# Altium footprint library 数码管.PCBLIB: 31 footprints (part 1 of 2)
Each footprint in its own frame and in the unit in brackets; x right, y up, seen from the top. Pads: shape width x height; smd on the part's side, far side on the other; paste and mask are expansions set on the pad; w line width, h text height; cw(c..) or ccw(c..) is an arc to the next point about the centre after c.
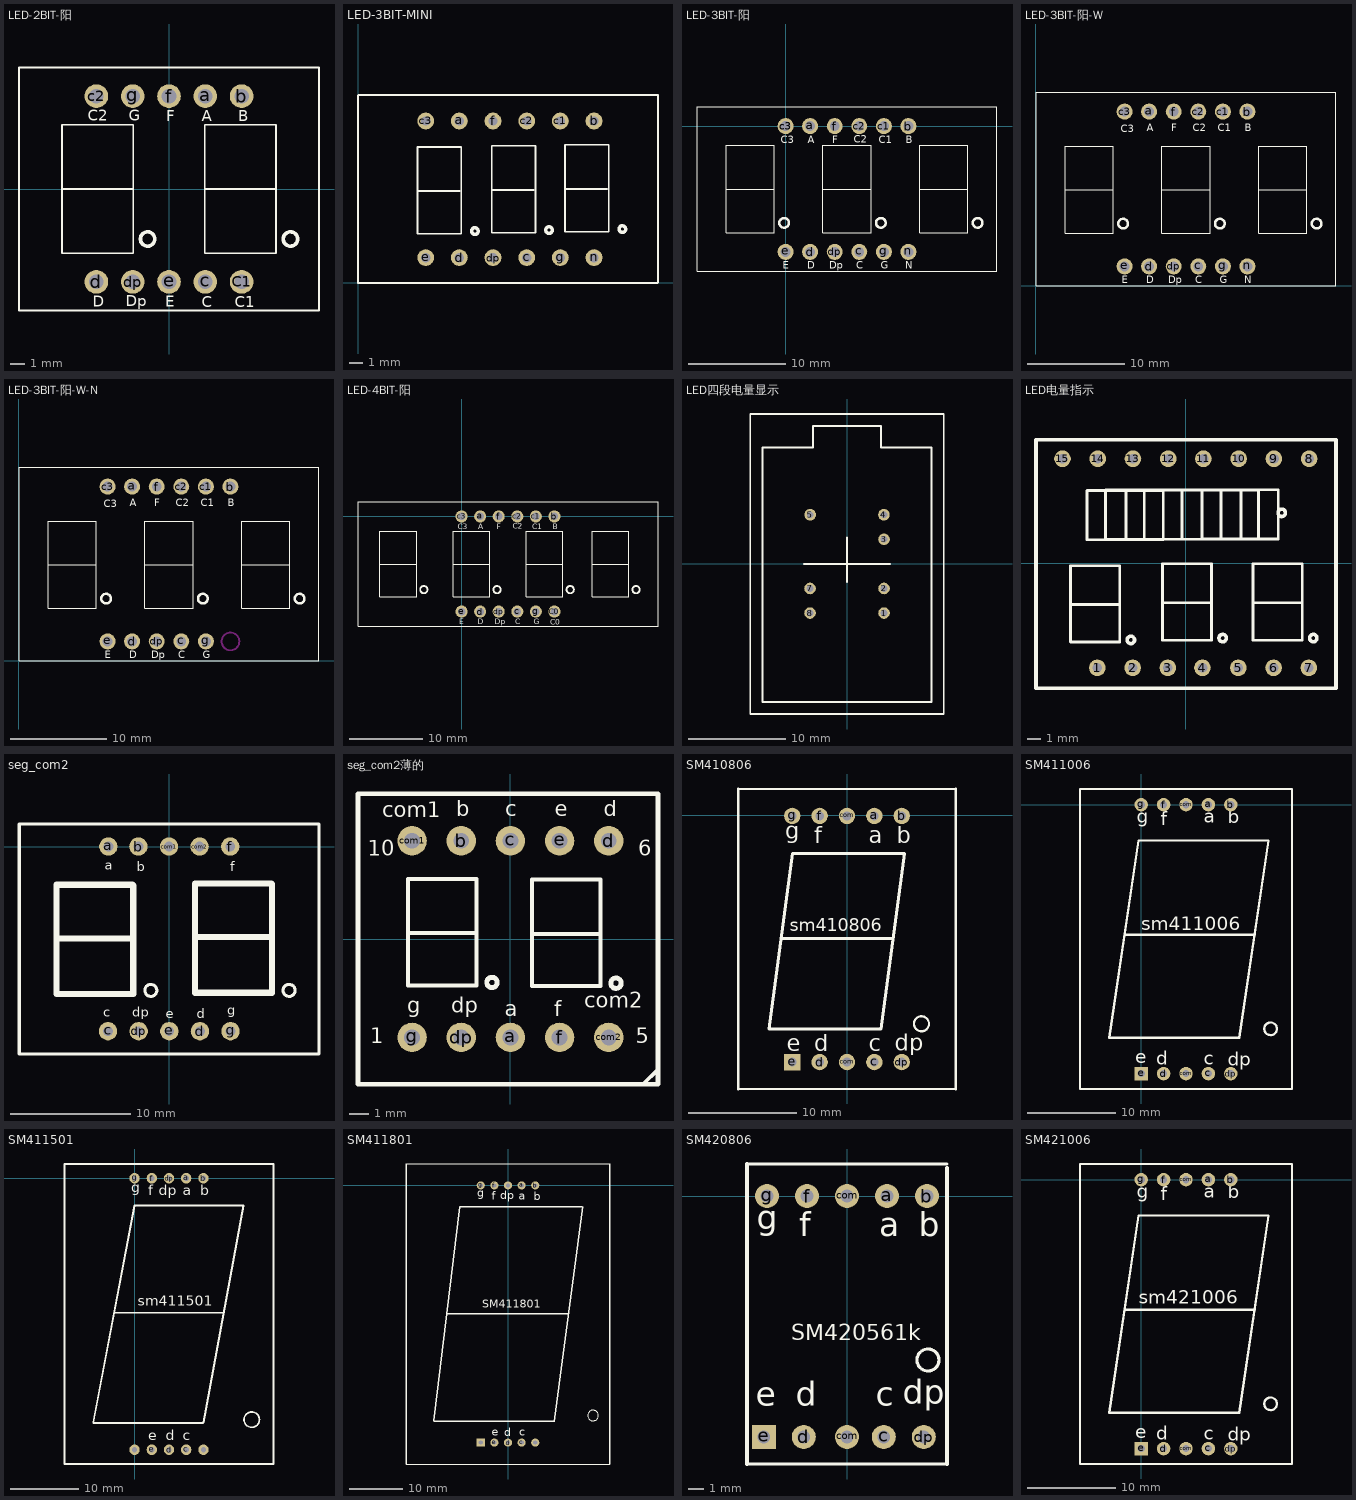
[diagram p0: the footprints below, top view; thin cyan lines are the x and y axes]

## LED-2BIT-阳 [mil]
pads (10):
  round 65 hole 40: a(100,255.91) b(200,255.91) c(100,-255.91) C1(200,-255.91) c2(-200,255.91) d(-200,-255.91) dp(-100,-255.91) e(0,-255.91) f(0,255.91) g(-100,255.91)
TopOverlay:
  circle w10: c-59.06,-137.8 r19.68
  circle w10: c334.65,-137.8 r19.68
  lines w5: -295.28,0 -98.43,0 ; 98.43,0 295.28,0 ; -413.39,-334.65 413.39,-334.65 413.39,334.65 -413.39,334.65 -413.39,-334.65 ; -295.28,-177.17 -295.28,177.17 -98.43,177.17 -98.43,-177.17 -295.28,-177.17 ; 98.43,-177.17 98.43,177.17 295.28,177.17 295.28,-177.17 98.43,-177.17
  text "G" at -111,188 h30
  text "B" at 191,187 h30
  text "E" at -10,-324 h30
  text "D" at -210,-325 h30
  text "Dp" at -119,-323 h30
  text "C" at 90,-326 h30
  text "C2" at -224,188 h30
  text "A" at 90,187 h30
  text "F" at -8,187 h30
  text "C1" at 181,-326 h30

## LED-3BIT-MINI [mil]
pads (12):
  round 50 hole 27.99: a(301,481) b(701,481) c(501,75.23) c1(601,481) c2(501,481) c3(201,481) d(301,75.23) dp(401,75.23) e(201,75.23) f(401,481) g(601,75.23) n(701,75.23)
TopOverlay:
  circle w10: c347.16,154 r9.84
  circle w10: c785.16,160 r9.84
  circle w10: c567.16,157 r9.84
  lines w5: 0,557.48 0,0 889.76,0 ; 1.24,558 891,558 891,0.52 ; 176.87,273.09 302,273.09 ; 176.87,403 176.87,146 307,146 307,404 176.87,404 ; 396.87,276.09 522,276.09 ; 396.87,406 396.87,149 527,149 527,407 396.87,407 ; 614.87,279.09 740,279.09 ; 614.87,409 614.87,152 745,152 745,410 614.87,410

## LED-3BIT-阳 [mil]
pads (13):
  round 65 hole 40: a(100,0) b(500,0) c(300,-511.81) c1(400,0) c2(300,0) c3(0,0) c3(0,0) d(100,-511.81) dp(200,-511.81) e(0,-511.81) f(200,0) g(400,-511.81) n(500,-511.81)
TopOverlay:
  circle w10: c781.5,-393.7 r19.68
  circle w10: c-5.91,-393.7 r19.68
  circle w10: c387.8,-393.7 r19.68
  lines w5: -242.13,-255.91 -45.28,-255.91 ; 151.57,-255.91 348.43,-255.91 ; 545.28,-255.91 742.13,-255.91 ; -242.13,-433.07 -242.13,-78.74 ; -242.13,-433.07 -242.13,-78.74 ; -242.13,-433.07 -45.28,-433.07 -45.28,-78.74 -242.13,-78.74 ; 742.13,-433.07 742.13,-78.74 ; 742.13,-433.07 545.28,-433.07 545.28,-78.74 742.13,-78.74 ; 742.13,-433.07 742.13,-78.74 ; -360.24,-590.55 860.24,-590.55 860.24,78.74 -360.24,78.74 -360.24,-590.55 ; 151.57,-433.07 151.57,-78.74 348.43,-78.74 348.43,-433.07 151.57,-433.07
  text "C2" at 276.84,-66.92 h30
  text "C1" at 379.84,-68.92 h30
  text "B" at 489.84,-68.92 h30
  text "E" at -12.16,-580.92 h30
  text "D" at 87.84,-580.92 h30
  text "Dp" at 177.84,-580.92 h30
  text "C" at 287.84,-580.92 h30
  text "G" at 387.84,-580.92 h30
  text "C3" at -20.16,-68.92 h30
  text "A" at 89.84,-68.92 h30
  text "F" at 189.84,-68.92 h30
  text "N" at 487.84,-580.92 h30

## LED-3BIT-阳-W [mil]
pads (12):
  round 65 hole 40: a(461,708.96) b(861,708.96) c(661,79.04) c1(761,708.96) c2(661,708.96) c3(361,708.96) d(461,79.04) dp(561,79.04) e(361,79.04) f(561,708.96) g(761,79.04) n(861,79.04)
TopOverlay:
  circle w10: c1142.5,253.15 r19.68
  circle w10: c355.09,253.15 r19.68
  circle w10: c748.8,253.15 r19.68
  lines w5: 118.87,390.94 315.72,390.94 ; 512.57,390.94 709.43,390.94 ; 906.28,390.94 1103.13,390.94 ; 118.87,213.78 118.87,568.11 ; 118.87,213.78 118.87,568.11 ; 118.87,213.78 315.72,213.78 315.72,568.11 118.87,568.11 ; 1103.13,213.78 1103.13,568.11 ; 1103.13,213.78 906.28,213.78 906.28,568.11 1103.13,568.11 ; 1103.13,213.78 1103.13,568.11 ; 0.76,0.3 1221.24,0.3 1221.24,787.7 0.76,787.7 0.76,0.3 ; 512.57,213.78 512.57,568.11 709.43,568.11 709.43,213.78 512.57,213.78
  text "C2" at 637.84,629.93 h30
  text "C1" at 740.84,627.93 h30
  text "B" at 850.84,627.93 h30
  text "E" at 348.84,9.93 h30
  text "D" at 448.84,9.93 h30
  text "Dp" at 538.84,9.93 h30
  text "C" at 648.84,9.93 h30
  text "G" at 748.84,9.93 h30
  text "A" at 450.84,627.93 h30
  text "F" at 550.84,627.93 h30
  text "N" at 848.84,9.93 h30
  text "C3" at 346,624 h30

## LED-3BIT-阳-W-N [mil]
pads (11):
  round 65 hole 40: a(461.24,708.66) b(861.24,708.66) c(661.24,78.74) c1(761.24,708.66) c2(661.24,708.66) c3(361.24,708.66) d(461.24,78.74) dp(561.24,78.74) e(361.24,78.74) f(561.24,708.66) g(761.24,78.74)
TopOverlay:
  circle w10: c1142.73,252.85 r19.68
  circle w10: c355.33,252.85 r19.68
  circle w10: c749.03,252.85 r19.68
  lines w5: 119.11,390.65 315.96,390.65 ; 512.81,390.65 709.66,390.65 ; 906.51,390.65 1103.36,390.65 ; 119.11,213.48 119.11,567.81 ; 119.11,213.48 119.11,567.81 ; 119.11,213.48 315.96,213.48 315.96,567.81 119.11,567.81 ; 1103.36,213.48 1103.36,567.81 ; 1103.36,213.48 906.51,213.48 906.51,567.81 1103.36,567.81 ; 1103.36,213.48 1103.36,567.81 ; 1,0 1221.47,0 1221.47,787.4 1,787.4 1,0 ; 512.81,213.48 512.81,567.81 709.66,567.81 709.66,213.48 512.81,213.48
  text "C2" at 638.08,629.63 h30
  text "C1" at 741.08,627.63 h30
  text "B" at 851.08,627.63 h30
  text "E" at 349.08,9.63 h30
  text "D" at 449.08,9.63 h30
  text "Dp" at 539.08,9.63 h30
  text "C" at 649.08,9.63 h30
  text "G" at 749.08,9.63 h30
  text "A" at 451.08,627.63 h30
  text "F" at 551.08,627.63 h30
  text "C3" at 346.24,623.7 h30
KeepOutLayer:
  circle w7.87: c861.24,78.74 r36.09

## LED-4BIT-阳 [mil]
pads (12):
  round 65 hole 40: a(100,0) b(500,0) c(300,-511.81) C0(500,-511.81) c1(400,0) c2(300,0) c3(0,0) d(100,-511.81) dp(200,-511.81) e(0,-511.81) f(200,0) g(400,-511.81)
TopOverlay:
  circle w10: c-202.76,-393.7 r19.68
  circle w10: c190.94,-393.7 r19.68
  circle w10: c584.65,-393.7 r19.68
  circle w10: c938.98,-393.7 r19.68
  lines w5: -438.98,-255.91 -242.13,-255.91 ; -45.28,-255.91 151.57,-255.91 ; 348.43,-255.91 545.28,-255.91 ; 702.76,-255.91 899.61,-255.91 ; -557.09,-590.55 1057.09,-590.55 1057.09,78.74 -557.09,78.74 -557.09,-590.55 ; -438.98,-433.07 -438.98,-78.74 -242.13,-78.74 -242.13,-433.07 -438.98,-433.07 ; -45.28,-433.07 -45.28,-78.74 151.57,-78.74 151.57,-433.07 -45.28,-433.07 ; 348.43,-433.07 348.43,-78.74 545.28,-78.74 545.28,-433.07 348.43,-433.07 ; 702.76,-433.07 702.76,-78.74 899.61,-78.74 899.61,-433.07 702.76,-433.07
  text "C2" at 276.84,-66.92 h30
  text "C1" at 379.84,-68.92 h30
  text "B" at 489.84,-68.92 h30
  text "E" at -12.16,-580.92 h30
  text "D" at 87.84,-580.92 h30
  text "Dp" at 177.84,-580.92 h30
  text "C" at 287.84,-580.92 h30
  text "G" at 387.84,-580.92 h30
  text "C3" at -20.16,-68.92 h30
  text "A" at 89.84,-68.92 h30
  text "F" at 189.84,-68.92 h30
  text "C0" at 476,-582.91 h30

## LED四段电量显示 [mm]
pads (7):
  round 1.2 hole 0.7: 1(3.825,-5.08) 2(3.825,-2.54) 3(3.825,2.54) 4(3.81,5.08) 5(-3.81,5.08) 7(-3.825,-2.54) 8(-3.825,-5.08)
TopOverlay:
  lines w0.2: -4.434,0.003 0.012,0.003 ; -4.04,0.003 4.187,0.003 ; -0.012,0.003 4.434,0.003 ; 0,-1.89 0,2.75 ; -10.003,-15.51 7.237,-15.51 9.997,-15.51 9.997,15.49 -10.003,15.49 -10.003,-15.51 ; -8.72,-14.25 -8.72,12.05 -3.53,12.05 -3.53,14.23 0,14.23 3.53,14.23 3.53,12.05 8.72,12.05 8.72,-14.25 -8.72,-14.25

## LED电量指示 [mm]
pads (15):
  round 1.2 hole 0.7: 1(-6.375,-7.537) 2(-3.835,-7.537) 3(-1.295,-7.537) 4(1.2,-7.537) 5(3.785,-7.537) 6(6.325,-7.537) 7(8.865,-7.537) 8(8.89,7.538) 9(6.35,7.538) 10(3.81,7.538) 11(1.27,7.538) 12(-1.27,7.538) 13(-3.81,7.538) 14(-6.35,7.538) 15(-8.89,7.538)
TopOverlay:
  circle w0.254: c6.912,3.64 r0.268
  circle w0.254: c9.186,-5.39 r0.268
  circle w0.254: c2.656,-5.39 r0.268
  circle w0.254: c-3.964,-5.52 r0.268
  lines w0.2: -8.31,-2.97 -4.89,-2.97 ; -4.32,1.69 -4.32,5.11 ; -3,1.73 -3,5.15 ; -1.69,-2.84 1.73,-2.84 ; 2.54,1.73 2.54,5.15 ; 3.97,1.76 3.97,5.18 ; 4.84,-2.84 8.26,-2.84 ; -8.31,-5.67 -4.76,-5.67 -4.76,-0.17 -8.31,-0.17 -8.31,-5.67 ; -7.12,1.69 -7.12,5.24 -1.62,5.24 -1.62,1.69 -7.12,1.69 ; -5.8,1.73 -0.3,1.73 -0.3,5.28 -5.8,5.28 -5.8,1.73 ; -1.69,-5.54 1.86,-5.54 1.86,-0.04 -1.69,-0.04 -1.69,-5.54 ; -0.26,1.73 5.24,1.73 5.24,5.28 -0.26,5.28 -0.26,1.73 ; 1.17,1.76 6.67,1.76 6.67,5.31 1.17,5.31 1.17,1.76 ; 4.84,-5.54 8.39,-5.54 8.39,-0.04 4.84,-0.04 4.84,-5.54
  lines w0.254: -10.8,-9.012 -10.8,8.913 10.825,8.913 10.825,-9.012 -10.8,-9.012

## seg_com2 [mil]
height 236.22
pads (10):
  round 60 hole 32: a(-198,0) b(-100,0) c(-199,-603) com1(0,0) com2(100,0) d(101,-603) dp(-99,-603) e(1,-603) f(200,0) g(201,-603)
TopOverlay:
  circle w10: c392.13,-469.69 r19.68
  circle w10: c-59.45,-469.69 r19.68
  lines w10: -489.76,74.09 489.76,74.09 489.76,-677.88 -489.37,-677.88 ; -488.98,-677.88 -488.98,74.09
  lines w20: -367.93,-481.94 -116.93,-481.94 ; -367.93,-477.94 -367.93,-124.94 ; -118.93,-299.94 -367.93,-299.94 -367.93,-124.94 ; -116.93,-476.94 -116.93,-126.94 -118.93,-124.94 -367.93,-124.94 ; 85.08,-477.59 336.08,-477.59 336.08,-127.59 ; 85.08,-473.59 85.08,-120.59 ; 334.08,-295.59 85.08,-295.59 85.08,-120.59 ; 336.08,-122.59 334.08,-120.59 85.08,-120.59
  text "c" at -215,-555 h31.5
  text "d" at 90,-560 h31.5
  text "dp" at -120,-555 h31.5
  text "e" at -10,-560 h31.5
  text "b" at -105,-80 h31.5
  text "a" at -210,-75 h31.5
  text "f" at 200,-80 h31.5
  text "g" at 190,-550 h31.5

## seg_com2薄的 [mil]
height 236.22
pads (10):
  round 60 hole 32: a(0,-200) b(-100,200) c(0,200) com1(-200,200) com2(200,-200) d(200,200) dp(-100,-200) e(100,200) f(100,-200) g(-200,-200)
TopOverlay:
  circle w10: c-37.56,-88.19 r10.54
  circle w10: c214.8,-89.76 r10.54
  lines w7.87: -208.66,12.2 -74.02,12.2 ; 43.7,10.63 178.35,10.63 ; 270.08,-295.28 300.2,-265.16 ; -208.66,-94.09 -68.9,-94.09 -68.9,122.44 -208.66,122.44 -208.66,-94.09 ; 43.7,-95.67 43.7,120.87 183.46,120.87 183.46,-95.67 43.7,-95.67
  lines w10: -310,-295.28 300.24,-295.28 300.24,295.67 -310,295.67 -310,-295.28
  text "com2" at 150,-140 h31.5
  text "d" at 190,250 h31.5
  text "com1" at -261.02,247.88 h31.5
  text "b" at -110,250 h31.5
  text "a" at -11,-157 h31.5
  text "dp" at -120,-150 h31.5
  text "f" at 89,-157 h31.5
  text "g" at -210,-150 h31.5
  text "1" at -285.41,-212.08 h31.5
  text "5" at 254.59,-212.08 h31.5
  text "6" at 260,170 h31.5
  text "10" at -290,170 h31.5
  text "c" at -10,250 h31.5
  text "e" at 90,250 h31.5

## SM410806 [mil]
pads (10):
  round 60 hole 32: a(100,-3) b(200,-3) c(100,-903) com(0,-903) com(0,-3) d(-100,-903) dp(200,-903) f(-100,-3) g(-200,-3)
  rect 60x60 hole 32: e(-200,-903)
TopOverlay:
  circle w8: c272.44,-763 r27.56
  lines w8: -397.64,-1001.42 397.64,-1001.42 ; -397.64,95.42 397.64,95.42 ; -242.2,-447.37 -238.26,-451.31 ; 167.25,-451.31 171.19,-447.37
  lines w10: -397.64,-1001.42 -397.64,95.42 ; -238.26,-451.31 167.25,-451.31 ; 397.64,-1001.42 397.64,95.42 ; -285.5,-782.02 123.94,-782.02 210.56,-140.28 -198.89,-140.28 -285.5,-782.02
  text "sm410806" at -210,-425 h47.24
  text "g" at -225.87,-86.3 h60
  text "f" at -120,-103 h60
  text "a" at 80,-103 h60
  text "b" at 181,-103 h60
  text "e" at -220,-863 h60
  text "dp" at 174,-861 h60
  text "c" at 80,-863 h60
  text "d" at -120,-863 h60

## SM411006 [mil]
pads (10):
  round 60 hole 32: a(299.87,-0.44) b(399.87,-0.44) c(299.87,-1200.52) com(199.87,-1200.52) com(199.87,-0.44) d(99.87,-1200.52) dp(399.87,-1200.52) f(99.87,-0.44) g(-0.13,-0.44)
  rect 60x60 hole 32: e(-0.13,-1200.52)
TopOverlay:
  circle w10: c577.43,-1000.52 r28.28
  lines w10: -72.57,-580.52 507.43,-580.52 ; 199.87,69.48 -272.57,69.48 ; -272.57,69.48 -272.57,-1269.1 672.32,-1269.1 ; -272.57,69.48 672.32,69.48 ; 672.32,-1269.1 672.32,69.48 ; 672.31,-1269.1 672.31,69.48 ; -142.57,-1040.52 -12.57,-160.52 567.43,-160.52 437.43,-1040.52 -142.57,-1040.52
  text "sm411006" at 0,-560 h60
  text "d" at 68,-1162 h60
  text "c" at 278,-1160 h60
  text "dp" at 386,-1166 h60
  text "b" at 386,-84 h60
  text "a" at 280,-82 h60
  text "f" at 88,-92 h60
  text "g" at -20,-80 h60
  text "e" at -26,-1154 h60

## SM411501 [mil]
pads (10):
  round 60 hole 31.5: a(300,0) b(400,0) c(300,-1574.8) com(0,-1574.8) com(400,-1574.8) d(200,-1574.8) dp(200,0) e(100,-1574.8) f(100,0) g(0,0)
TopOverlay:
  circle w10: c680,-1400 r44.72
  lines w10: -240.07,-1417.32 0,-157.48 632.22,-157.48 400,-1417.32 ; -240,-1420 397.32,-1420 ; -112.99,-780 520,-780 ; -406.3,-1657.48 -406.3,82.68 806.3,82.68 806.3,-1657.48 -406.3,-1657.48
  text "f" at 80,-100 h60
  text "g" at -20,-80 h60
  text "c" at 280,-1520 h60
  text "d" at 180,-1520 h60
  text "e" at 80,-1520 h60
  text "dp" at 140,-100 h60
  text "a" at 280,-100 h60
  text "b" at 380,-100 h60
  text "sm411501" at 20,-740 h60

## SM411801 [mil]
pads (10):
  round 60 hole 32: a(100,0) b(200,0) c(100,-1889.76) com(200,-1889.76) d(0,-1889.76) dp(0,0) e(-100,-1889.76) f(-100,0) g(-200,0)
  rect 60x60 hole 32: com(-200,-1889.76)
TopOverlay:
  circle w8: c624.63,-1691 r39.37
  lines w8: -748.03,-2047.24 748.03,-2047.24 ; -748.03,157.48 748.03,157.48
  lines w10: -748.03,-2047.24 -748.03,157.48 ; -545,-1732.28 342.52,-1732.28 ; -545,-1728 -355.02,-157.48 544.2,-157.48 ; -451,-943 445,-943 ; 341.23,-1732.28 549,-157.48 ; 748.03,-2047.24 748.03,157.48
  text "SM411801" at -190,-900 h59.05
  text "d" at -27,-1843 h60
  text "c" at 83,-1838 h60
  text "dp" at -58,-100 h60
  text "e" at -121,-1838 h60
  text "b" at 188,-110 h60
  text "a" at 78,-105 h60
  text "f" at -121,-105 h60
  text "g" at -226,-84 h60

## SM420806 [mil]
pads (10):
  round 60 hole 32: a(100,0) b(200,0) c(92,-602.36) com(0,-602.36) com(0,0) d(-108,-602.36) dp(192,-602.36) f(-100,0) g(-200,0)
  rect 60x60 hole 32: e(-208,-602.36)
TopOverlay:
  circle w8: c202.44,-410 r27.56
  lines w8: -250,-670 250,-670 ; -250,80 250,80
  lines w10: -250,-670 -250,80 ; 250,-670 250,70
  text "d" at -128,-524 h60
  text "c" at 72,-524 h60
  text "dp" at 140,-520 h60
  text "e" at -228,-524 h60
  text "b" at 180,-100 h60
  text "a" at 80,-100 h60
  text "f" at -120,-100 h60
  text "g" at -225.87,-83.3 h60
  text "SM420561k" at -140,-360 h40

## SM421006 [mil]
pads (10):
  round 60 hole 32: a(299.87,-0.44) b(399.87,-0.44) c(299.87,-1200.52) com(199.87,-1200.52) com(199.87,-0.44) d(99.87,-1200.52) dp(399.87,-1200.52) f(99.87,-0.44) g(-0.13,-0.44)
  rect 60x60 hole 32: e(-0.13,-1200.52)
TopOverlay:
  circle w10: c577.43,-1000.52 r28.28
  lines w10: -72.57,-580.52 507.43,-580.52 ; 199.87,69.48 -272.57,69.48 ; -272.57,69.48 672.32,69.48 ; -272.57,69.48 -272.57,-1269.1 672.32,-1269.1 ; 672.31,-1269.1 672.31,69.48 ; 672.32,-1269.1 672.32,69.48 ; -142.57,-1040.52 437.43,-1040.52 567.43,-160.52 -12.57,-160.52 -142.57,-1040.52
  text "e" at -26,-1154 h60
  text "g" at -20,-80 h60
  text "f" at 88,-92 h60
  text "a" at 280,-82 h60
  text "b" at 386,-84 h60
  text "dp" at 386,-1166 h60
  text "c" at 278,-1160 h60
  text "d" at 68,-1162 h60
  text "sm421006" at -10,-555 h60